# Altium schematic symbol library DiodesInc.SchLib: 1 symbol
Pins are listed as number, name and electrical type; pins without a type are passive.

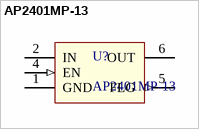
[diagram p0: symbol AP2401MP-13]

## AP2401MP-13
designator U?
Current-limited power switch
pins: 1 GND (power), 2 IN (power), 3 IN (power), 4 EN (in), 5 FLG (out), 6 OUT (power), 7 OUT (power)